# EAGLE library part BM78SPPS5MC2/NC2 (library ECE477_Guitutar)
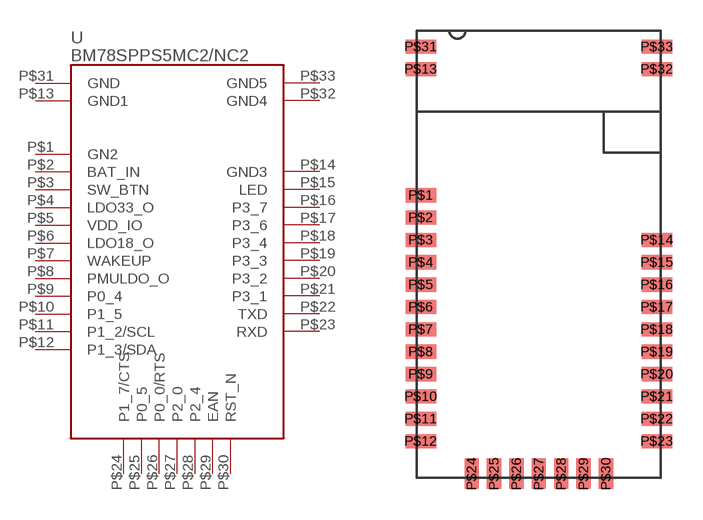
[diagram p1: symbol with the pads of BM78SPPS5MC2/NC2; footprint BM78SPPS5MC2/NC2]

Designator prefix -

## BM78SPPS5MC2/NC2  [BM78SPPS5MC2/NC2]
P$1  GN2
P$2  BAT_IN
P$3  SW_BTN
P$4  LDO33_O
P$5  VDD_IO
P$6  LDO18_O
P$7  WAKEUP
P$8  PMULDO_O
P$9  P0_4
P$10  P1_5
P$11  P1_2/SCL
P$12  P1_3/SDA
P$13  GND1
P$14  GND3
P$15  LED
P$16  P3_7
P$17  P3_6
P$18  P3_4
P$19  P3_3
P$20  P3_2
P$21  P3_1
P$22  TXD
P$23  RXD
P$24  P1_7/CTS
P$25  P0_5
P$26  P0_0/RTS
P$27  P2_0
P$28  P2_4
P$29  EAN
P$30  RST_N
P$31  GND
P$32  GND4
P$33  GND5

## Footprint BM78SPPS5MC2/NC2 (pad centres in mm)
smd 1.5 x 0.7: P$1 0.2,13.9; P$2 0.2,12.8; P$3 0.2,11.7; P$4 0.2,10.6; P$5 0.2,9.5; P$6 0.2,8.4; P$7 0.2,7.3; P$8 0.2,6.2; P$9 0.2,5.1; P$10 0.2,4; P$11 0.2,2.9; P$12 0.2,1.8; P$13 0.2,20.1; P$14 11.8,11.7; P$15 11.8,10.6; P$16 11.8,9.5; P$17 11.8,8.4; P$18 11.8,7.3; P$19 11.8,6.2; P$20 11.8,5.1; P$21 11.8,4; P$22 11.8,2.9; P$23 11.8,1.8; P$31 0.2,21.2; P$32 11.8,20.1; P$33 11.8,21.2
smd 0.7 x 1.5: P$24 2.7,0.2; P$25 3.8,0.2; P$26 4.9,0.2; P$27 6,0.2; P$28 7.1,0.2; P$29 8.2,0.2; P$30 9.3,0.2